# Altium schematic symbol library Crystal.SchLib: 4 symbols
Pins are listed as number, name and electrical type; pins without a type are passive.

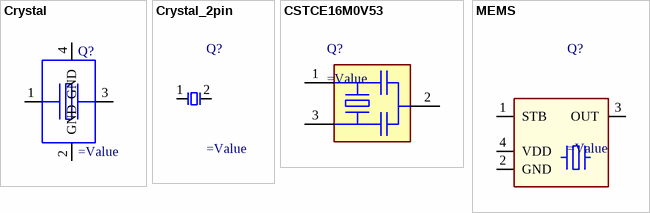
[diagram p0: symbols Crystal to MEMS]

## Crystal
designator Q?
Manufacturer: ECS Inc.; Manufacturer Part Number: ECS-250-8-33B-CKM-TR
pins: 1, 2 GND, 3, 4 GND

## Crystal_2pin
designator Q?
Manufacturer: ECS Inc.; Manufacturer Part Number: ECS-250-8-33B-CKM-TR
pins: 1, 2

## CSTCE16M0V53
designator Q?
pins: 1, 2, 3

## MEMS
designator Q?
pins: 1 STB, 2 GND, 3 OUT, 4 VDD